# Altium schematic symbol library IC_Switch.SchLib: 2 symbols
Pins are listed as number, name and electrical type; pins without a type are passive.

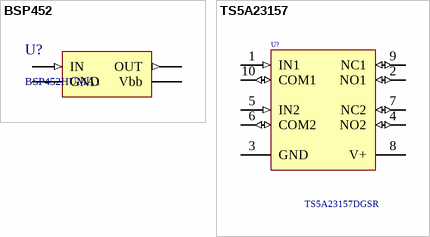
[diagram p0: symbols BSP452 to TS5A23157]

## BSP452
designator U?, comment BSP452HUMA1
Smart High-Side Power Switch; Imax, A: 0.7; Rds, mOhm: 160; Vin_max, V: 34; Vin_min, V: 5; HelpURL: https://www.infineon.com/dgdl/Infineon-BSP452-DS-v01_00-en.pdf?fileId=db3a30431b3e89eb011b7eac4d321531
footprint SOT-223 (SOT223, 4-Leads, Body 6,50x7,00mm (avg), Pitch 2,30mm, IPC Medium Density)
pins: 1 OUT (out), 2 GND, 3 IN (in), 4 Vbb (power)

## TS5A23157
designator U?, comment TS5A23157DGSR
Dual 10-Ω SPDT Analog Switch; On-State Resistance: 10R; Min Supply Voltage: 1.8V; Max Supply Voltage: 5.5V; Turn-On Delay Time: 5.7ns; Number of Inputs: 2; Operating Supply Current: 1uA; Supply Type: Single; High Level Output Current: 50mA; Turn-Off Delay Time: 3.8ns; Number of Outputs: 4; Bandwidth: 220MHz; Polarity: Non-Inverting; Height: 1.02mm; Contact Plating: Gold; Number of Pins: 10; Length: 3mm; Series: -; Packaging: Tape and Reel; Case/Package: VSSOP; Radiation Hardening: No; Width: 3mm; Number of Channels: 2; Max Operating Temperature: 85°C; Lead Free: Lead Free; Weight: 0.000663oz; Package Quantity: 1; Number of Bits: 2; Low Level Output Current: 50mA; Max Supply Current: 1uA; Throw Configuration: SPDT; Min Operating Temperature: -40°C; Mount: Surface Mount; Name: TS5A23157DGSR; HelpURL: https://www.ti.com/lit/ds/symlink/ts5a23157.pdf
footprint MSOP-10-0.5 (TSSOP, 10-Leads, Body 3,00x3,00mm, Pitch 0,50mm, IPC Medium Density)
pins: 1 IN1 (in), 2 NO1 (io), 3 GND (power), 4 NO2 (io), 5 IN2 (in), 6 COM2 (io), 7 NC2 (io), 8 V+ (power), 9 NC1 (io), 10 COM1 (io)